# EAGLE library part FT37_TRIFILAR_1 (library quadrature_generator)
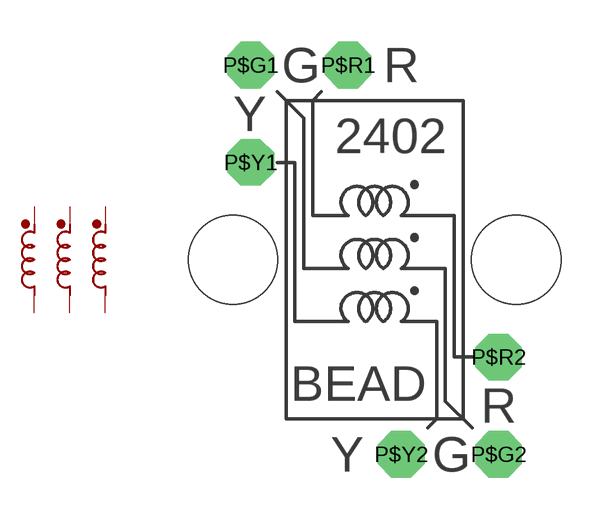
[diagram p1: symbol with the pads of FT37_TRIFILAR_VERT_NC; footprint FT37_TRIFILAR_VERT_NC]

Designator prefix -

## FT37_TRIFILAR_1  [FT37_TRIFILAR_VERT_NC]
P$G1  G1
P$G2  G2
P$R1  R1
P$R2  R2
P$Y1  Y1
P$Y2  Y2

## Footprint FT37_TRIFILAR_VERT_NC (pad centres in mm)
drill 0.8 pad 1.676 octagon: P$G1 -4.445,6.985; P$G2 4.445,-6.985; P$R1 -0.953,6.985; P$R2 4.445,-3.493; P$Y1 -4.445,3.493; P$Y2 0.953,-6.985
hole 3.2 at -5.08,0
hole 3.2 at 5.08,0